# EAGLE library part LSM6DS3 (library KNPN-2023)
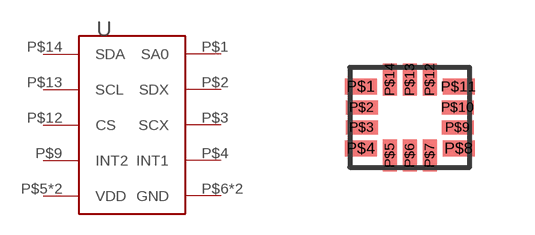
[diagram p14: symbol with the pads of LSM6DS3; footprint LSM6DS3]

Designator prefix -

## LSM6DS3  [LSM6DS3]
P$1  SA0
P$2  SDX
P$3  SCX
P$4  INT1
P$5  VDD
P$6  GND
P$7  GND
P$8  VDD
P$9  INT2
P$12  CS
P$13  SCL
P$14  SDA

## Footprint LSM6DS3 (pad centres in mm)
smd 0.8 x 0.4: P$1 -1.225,0.775; P$4 -1.225,-0.775; P$8 1.225,-0.775; P$11 1.225,0.775
smd 0.8 x 0.35: P$2 -1.2,0.25; P$3 -1.2,-0.25; P$9 1.2,-0.25; P$10 1.2,0.25
smd 0.35 x 0.8: P$5 -0.5,-0.95; P$6 0,-0.95; P$7 0.5,-0.95; P$12 0.5,0.95; P$13 0,0.95; P$14 -0.5,0.95